# Altium integrated library ZMDI Sensor Signal Conditioner.IntLib: 63 symbols (part 1 of 3)
Pins are listed as number, name and electrical type; pins without a type are passive.

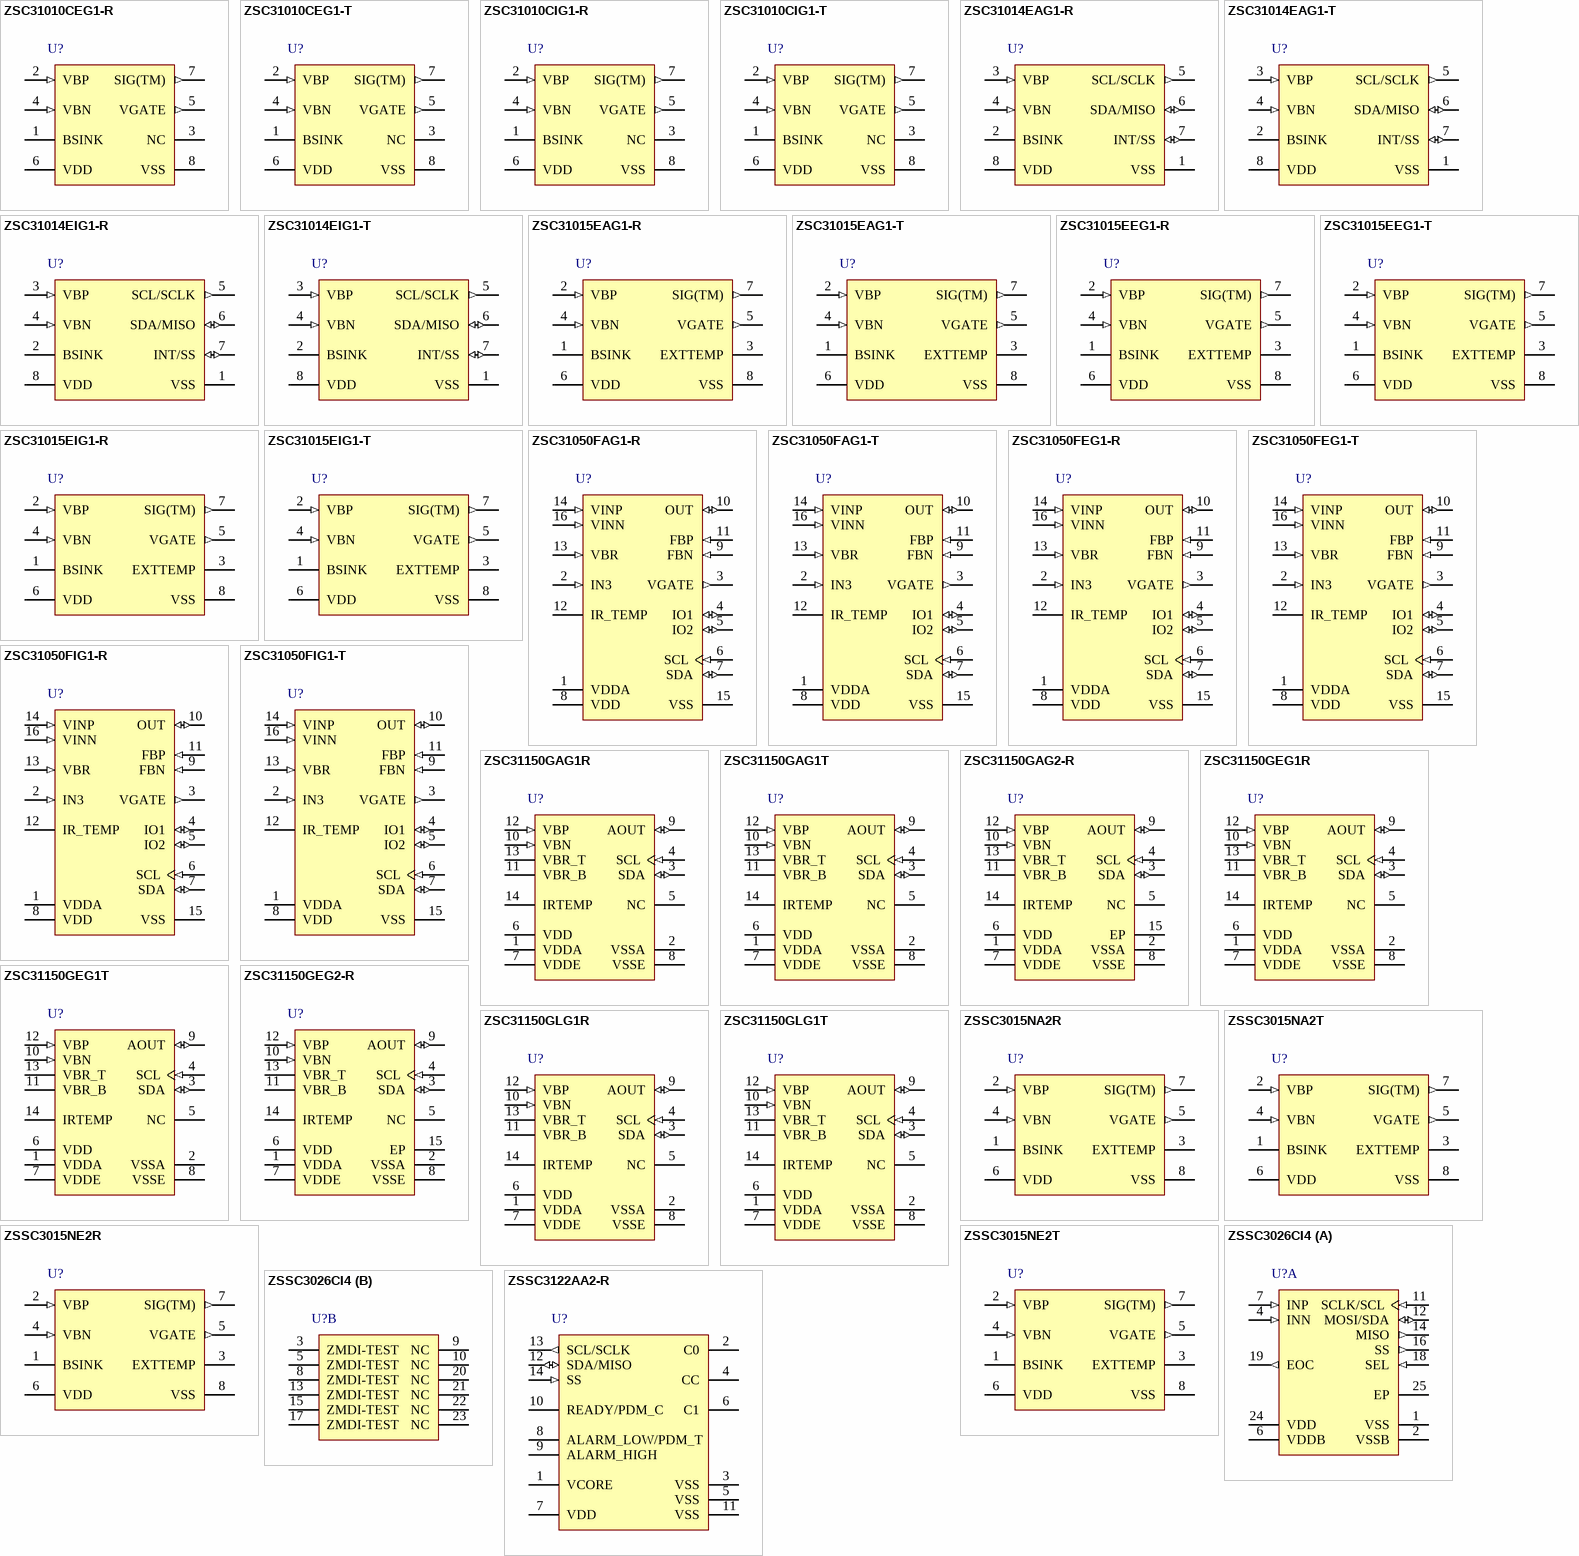
[diagram p0: symbols ZSC31010CEG1-R to ZSSC3122AA2-R]

## ZSC31010CEG1-R
designator U?
RBicLite(TM) Analog Output Sensor Signal Conditioner, 2.7 to 5.5 V Supply Voltage, -50 to 150 degC, 8-Pin SOP, Reel, RoHS; Manufacturer: ZMDI; PartNumber: ZSC31010CEG1-R; ADC Resolution: 14; Adjustable Analog Gain Values: 6 to 48; DatasheetVersion: Rev. 2.84; PackageReference: SOP8 (150mil); PackageDescription: 8-Pin Plastic Small Outline, 4.9 x 3.9 mm Body, 1.27 mm Pitch; Supplier 1: Mouser; Supplier Part Number 1: 964-ZSC31010CEG1R; Mounting Technology: Surface Mount; ComponentLink1Description: Manufacturer URL; ComponentLink1URL: http://www.zmdi.com/; ComponentLink2Description: Datasheet; ComponentLink2URL: http://zmdi.cdistore.com/datasheets/zmdi/ZSC31010_RBic_Lite_Data_Sheet_rev2_84_2013-08_15.pdf; ComponentLink3Description: Package Specification; ComponentLink3URL: http://www.zmdi.com/sites/default/files/ZLED7010_DataSheet_Rev_1.1.pdf
footprint ZMDI-SOP8 (150mil)_N (SOP, 8-Leads, Body 5x4mm, Pitch 1.27mm, IPC Medium Density)
footprint ZMDI-SOP8 (150mil)_L (SOP, 8-Leads, Body 5x4mm, Pitch 1.27mm, IPC High Density)
footprint ZMDI-SOP8 (150mil)_M (SOP, 8-Leads, Body 5x4mm, Pitch 1.27mm, IPC Low Density)
pins: 1 BSINK (power) "Optional ground connection for bridge ground. Used for power savings.", 2 VBP (in) "Positive bridge connection", 3 NC "No connection", 4 VBN (in) "Negative bridge connection", 5 VGATE (out) "Gate control for external JFET regulation/over-voltage protection", 6 VDD (power) "Supply voltage (2.7 - 5.5 V)", 7 SIG(TM) (out) "ZACwire(TM) interface (analog out, digital out, calibration interface)", 8 VSS (power) "Ground supply"

## ZSC31010CEG1-T
designator U?
RBicLite(TM) Analog Output Sensor Signal Conditioner, 2.7 to 5.5 V Supply Voltage, -50 to 150 degC, 8-Pin SOP, Tube, RoHS; Manufacturer: ZMDI; PartNumber: ZSC31010CEG1-T; ADC Resolution: 14; Adjustable Analog Gain Values: 6 to 48; DatasheetVersion: Rev. 2.84; PackageReference: SOP8 (150mil); PackageDescription: 8-Pin Plastic Small Outline, 4.9 x 3.9 mm Body, 1.27 mm Pitch; Supplier 1: Mouser; Supplier Part Number 1: 964-ZSC31010CEG1T; Mounting Technology: Surface Mount; ComponentLink1Description: Manufacturer URL; ComponentLink1URL: http://www.zmdi.com/; ComponentLink2Description: Datasheet; ComponentLink2URL: http://zmdi.cdistore.com/datasheets/zmdi/ZSC31010_RBic_Lite_Data_Sheet_rev2_84_2013-08_15.pdf; ComponentLink3Description: Package Specification; ComponentLink3URL: http://www.zmdi.com/sites/default/files/ZLED7010_DataSheet_Rev_1.1.pdf
footprint ZMDI-SOP8 (150mil)_N (SOP, 8-Leads, Body 5x4mm, Pitch 1.27mm, IPC Medium Density)
footprint ZMDI-SOP8 (150mil)_L (SOP, 8-Leads, Body 5x4mm, Pitch 1.27mm, IPC High Density)
footprint ZMDI-SOP8 (150mil)_M (SOP, 8-Leads, Body 5x4mm, Pitch 1.27mm, IPC Low Density)
pins: 1 BSINK (power) "Optional ground connection for bridge ground. Used for power savings.", 2 VBP (in) "Positive bridge connection", 3 NC "No connection", 4 VBN (in) "Negative bridge connection", 5 VGATE (out) "Gate control for external JFET regulation/over-voltage protection", 6 VDD (power) "Supply voltage (2.7 - 5.5 V)", 7 SIG(TM) (out) "ZACwire(TM) interface (analog out, digital out, calibration interface)", 8 VSS (power) "Ground supply"

## ZSC31010CIG1-R
designator U?
RBicLite(TM) Analog Output Sensor Signal Conditioner, 2.7 to 5.5 V Supply Voltage, -40 to 85 degC, 8-Pin SOP, Reel, RoHS; Manufacturer: ZMDI; PartNumber: ZSC31010CIG1-R; ADC Resolution: 14; Adjustable Analog Gain Values: 6 to 48; DatasheetVersion: Rev. 2.84; PackageReference: SOP8 (150mil); PackageDescription: 8-Pin Plastic Small Outline, 4.9 x 3.9 mm Body, 1.27 mm Pitch; Supplier 1: Mouser; Supplier Part Number 1: 964-ZSC31010CIG1R; Mounting Technology: Surface Mount; ComponentLink1Description: Manufacturer URL; ComponentLink1URL: http://www.zmdi.com/; ComponentLink2Description: Datasheet; ComponentLink2URL: http://zmdi.cdistore.com/datasheets/zmdi/ZSC31010_RBic_Lite_Data_Sheet_rev2_84_2013-08_15.pdf; ComponentLink3Description: Package Specification; ComponentLink3URL: http://www.zmdi.com/sites/default/files/ZLED7010_DataSheet_Rev_1.1.pdf
footprint ZMDI-SOP8 (150mil)_N (SOP, 8-Leads, Body 5x4mm, Pitch 1.27mm, IPC Medium Density)
footprint ZMDI-SOP8 (150mil)_L (SOP, 8-Leads, Body 5x4mm, Pitch 1.27mm, IPC High Density)
footprint ZMDI-SOP8 (150mil)_M (SOP, 8-Leads, Body 5x4mm, Pitch 1.27mm, IPC Low Density)
pins: 1 BSINK (power) "Optional ground connection for bridge ground. Used for power savings.", 2 VBP (in) "Positive bridge connection", 3 NC "No connection", 4 VBN (in) "Negative bridge connection", 5 VGATE (out) "Gate control for external JFET regulation/over-voltage protection", 6 VDD (power) "Supply voltage (2.7 - 5.5 V)", 7 SIG(TM) (out) "ZACwire(TM) interface (analog out, digital out, calibration interface)", 8 VSS (power) "Ground supply"

## ZSC31010CIG1-T
designator U?
RBicLite(TM) Analog Output Sensor Signal Conditioner, 2.7 to 5.5 V Supply Voltage, -40 to 85 degC, 8-Pin SOP, Tube, RoHS; Manufacturer: ZMDI; PartNumber: ZSC31010CIG1-T; ADC Resolution: 14; Adjustable Analog Gain Values: 6 to 48; DatasheetVersion: Rev. 2.84; PackageReference: SOP8 (150mil); PackageDescription: 8-Pin Plastic Small Outline, 4.9 x 3.9 mm Body, 1.27 mm Pitch; Supplier 1: Mouser; Supplier Part Number 1: 964-ZSC31010CIG1T; Mounting Technology: Surface Mount; ComponentLink1Description: Manufacturer URL; ComponentLink1URL: http://www.zmdi.com/; ComponentLink2Description: Datasheet; ComponentLink2URL: http://zmdi.cdistore.com/datasheets/zmdi/ZSC31010_RBic_Lite_Data_Sheet_rev2_84_2013-08_15.pdf; ComponentLink3Description: Package Specification; ComponentLink3URL: http://www.zmdi.com/sites/default/files/ZLED7010_DataSheet_Rev_1.1.pdf
footprint ZMDI-SOP8 (150mil)_N (SOP, 8-Leads, Body 5x4mm, Pitch 1.27mm, IPC Medium Density)
footprint ZMDI-SOP8 (150mil)_L (SOP, 8-Leads, Body 5x4mm, Pitch 1.27mm, IPC High Density)
footprint ZMDI-SOP8 (150mil)_M (SOP, 8-Leads, Body 5x4mm, Pitch 1.27mm, IPC Low Density)
pins: 1 BSINK (power) "Optional ground connection for bridge ground. Used for power savings.", 2 VBP (in) "Positive bridge connection", 3 NC "No connection", 4 VBN (in) "Negative bridge connection", 5 VGATE (out) "Gate control for external JFET regulation/over-voltage protection", 6 VDD (power) "Supply voltage (2.7 - 5.5 V)", 7 SIG(TM) (out) "ZACwire(TM) interface (analog out, digital out, calibration interface)", 8 VSS (power) "Ground supply"

## ZSC31014EAG1-R
designator U?
RBiciLite(TM) Digital Output Sensor Signal Conditioner, 2.7 to 5.5 V Supply Voltage, -40 to 125 degC, 8-Pin SOP, Reel, RoHS; Manufacturer: ZMDI; PartNumber: ZSC31014EAG1-R; ADC Resolution: 14; Adjustable Analog Gain Values: 1.5 to 192; DatasheetVersion: Rev. 1.62; PackageReference: SOP8 (150mil); PackageDescription: 8-Pin Plastic Small Outline, 4.9 x 3.9 mm Body, 1.27 mm Pitch; Supplier 1: Mouser; Supplier Part Number 1: 964-ZSC31014EAG1-R; Mounting Technology: Surface Mount; ComponentLink1Description: Manufacturer URL; ComponentLink1URL: http://www.zmdi.com/; ComponentLink2Description: Datasheet; ComponentLink2URL: http://www.zmdi.com/sites/default/files/ZSC31014_iLite_Data_Sheet_rev1_62_2013-03-11.pdf; ComponentLink3Description: Package Specification; ComponentLink3URL: http://www.zmdi.com/sites/default/files/ZLED7010_DataSheet_Rev_1.1.pdf
footprint ZMDI-SOP8 (150mil)_N (SOP, 8-Leads, Body 5x4mm, Pitch 1.27mm, IPC Medium Density)
footprint ZMDI-SOP8 (150mil)_L (SOP, 8-Leads, Body 5x4mm, Pitch 1.27mm, IPC High Density)
footprint ZMDI-SOP8 (150mil)_M (SOP, 8-Leads, Body 5x4mm, Pitch 1.27mm, IPC Low Density)
pins: 1 VSS (power) "Ground supply.", 2 BSINK (power) "Switched ground for bridge sink - optional feature for power savings.", 3 VBP (in) "Positive input for differential signal (bridge positive).", 4 VBN (in) "Negative input for differential signal (bridge negative).", 5 SCL/SCLK (out), 6 SDA/MISO (io), 7 INT/SS (io), 8 VDD (power) "Supply voltage (2.7-5.5V)."

## ZSC31014EAG1-T
designator U?
RBiciLite(TM) Digital Output Sensor Signal Conditioner, 2.7 to 5.5 V Supply Voltage, -40 to 125 degC, 8-Pin SOP, Tube, RoHS; Manufacturer: ZMDI; PartNumber: ZSC31014EAG1-T; ADC Resolution: 14; Adjustable Analog Gain Values: 1.5 to 192; DatasheetVersion: Rev. 1.62; PackageReference: SOP8 (150mil); PackageDescription: 8-Pin Plastic Small Outline, 4.9 x 3.9 mm Body, 1.27 mm Pitch; Supplier 1: Mouser; Supplier Part Number 1: 964-ZSC31014EAG1-T; Mounting Technology: Surface Mount; ComponentLink1Description: Manufacturer URL; ComponentLink1URL: http://www.zmdi.com/; ComponentLink2Description: Datasheet; ComponentLink2URL: http://www.zmdi.com/sites/default/files/ZSC31014_iLite_Data_Sheet_rev1_62_2013-03-11.pdf; ComponentLink3Description: Package Specification; ComponentLink3URL: http://www.zmdi.com/sites/default/files/ZLED7010_DataSheet_Rev_1.1.pdf
footprint ZMDI-SOP8 (150mil)_N (SOP, 8-Leads, Body 5x4mm, Pitch 1.27mm, IPC Medium Density)
footprint ZMDI-SOP8 (150mil)_L (SOP, 8-Leads, Body 5x4mm, Pitch 1.27mm, IPC High Density)
footprint ZMDI-SOP8 (150mil)_M (SOP, 8-Leads, Body 5x4mm, Pitch 1.27mm, IPC Low Density)
pins: 1 VSS (power) "Ground supply.", 2 BSINK (power) "Switched ground for bridge sink - optional feature for power savings.", 3 VBP (in) "Positive input for differential signal (bridge positive).", 4 VBN (in) "Negative input for differential signal (bridge negative).", 5 SCL/SCLK (out), 6 SDA/MISO (io), 7 INT/SS (io), 8 VDD (power) "Supply voltage (2.7-5.5V)."

## ZSC31014EIG1-R
designator U?
RBiciLite(TM) Digital Output Sensor Signal Conditioner, 2.7 to 5.5 V Supply Voltage, -40 to 85 degC, 8-Pin SOP, Reel, RoHS; Manufacturer: ZMDI; PartNumber: ZSC31014EIG1-R; ADC Resolution: 14; Adjustable Analog Gain Values: 1.5 to 192; DatasheetVersion: Rev. 1.62; PackageReference: SOP8 (150mil); PackageDescription: 8-Pin Plastic Small Outline, 4.9 x 3.9 mm Body, 1.27 mm Pitch; Supplier 1: Mouser; Supplier Part Number 1: 964-ZSC31014EIG1-R; Mounting Technology: Surface Mount; ComponentLink1Description: Manufacturer URL; ComponentLink1URL: http://www.zmdi.com/; ComponentLink2Description: Datasheet; ComponentLink2URL: http://www.zmdi.com/sites/default/files/ZSC31014_iLite_Data_Sheet_rev1_62_2013-03-11.pdf; ComponentLink3Description: Package Specification; ComponentLink3URL: http://www.zmdi.com/sites/default/files/ZLED7010_DataSheet_Rev_1.1.pdf
footprint ZMDI-SOP8 (150mil)_N (SOP, 8-Leads, Body 5x4mm, Pitch 1.27mm, IPC Medium Density)
footprint ZMDI-SOP8 (150mil)_L (SOP, 8-Leads, Body 5x4mm, Pitch 1.27mm, IPC High Density)
footprint ZMDI-SOP8 (150mil)_M (SOP, 8-Leads, Body 5x4mm, Pitch 1.27mm, IPC Low Density)
pins: 1 VSS (power) "Ground supply.", 2 BSINK (power) "Switched ground for bridge sink - optional feature for power savings.", 3 VBP (in) "Positive input for differential signal (bridge positive).", 4 VBN (in) "Negative input for differential signal (bridge negative).", 5 SCL/SCLK (out), 6 SDA/MISO (io), 7 INT/SS (io), 8 VDD (power) "Supply voltage (2.7-5.5V)."

## ZSC31014EIG1-T
designator U?
RBiciLite(TM) Digital Output Sensor Signal Conditioner, 2.7 to 5.5 V Supply Voltage, -40 to 85 degC, 8-Pin SOP, Tube, RoHS; Manufacturer: ZMDI; PartNumber: ZSC31014EIG1-T; ADC Resolution: 14; Adjustable Analog Gain Values: 1.5 to 192; DatasheetVersion: Rev. 1.62; PackageReference: SOP8 (150mil); PackageDescription: 8-Pin Plastic Small Outline, 4.9 x 3.9 mm Body, 1.27 mm Pitch; Supplier 1: Mouser; Supplier Part Number 1: 964-ZSC31014EIG1-T; Mounting Technology: Surface Mount; ComponentLink1Description: Manufacturer URL; ComponentLink1URL: http://www.zmdi.com/; ComponentLink2Description: Datasheet; ComponentLink2URL: http://www.zmdi.com/sites/default/files/ZSC31014_iLite_Data_Sheet_rev1_62_2013-03-11.pdf; ComponentLink3Description: Package Specification; ComponentLink3URL: http://www.zmdi.com/sites/default/files/ZLED7010_DataSheet_Rev_1.1.pdf
footprint ZMDI-SOP8 (150mil)_N (SOP, 8-Leads, Body 5x4mm, Pitch 1.27mm, IPC Medium Density)
footprint ZMDI-SOP8 (150mil)_L (SOP, 8-Leads, Body 5x4mm, Pitch 1.27mm, IPC High Density)
footprint ZMDI-SOP8 (150mil)_M (SOP, 8-Leads, Body 5x4mm, Pitch 1.27mm, IPC Low Density)
pins: 1 VSS (power) "Ground supply.", 2 BSINK (power) "Switched ground for bridge sink - optional feature for power savings.", 3 VBP (in) "Positive input for differential signal (bridge positive).", 4 VBN (in) "Negative input for differential signal (bridge negative).", 5 SCL/SCLK (out), 6 SDA/MISO (io), 7 INT/SS (io), 8 VDD (power) "Supply voltage (2.7-5.5V)."

## ZSC31015EAG1-R
designator U?
RBicdLite(TM) Analog Output Sensor Signal Conditioner with Diagnostic Features, 2.7 to 5.5 V Supply Voltage, -40 to 125 degC, 8-Pin SOP, Reel, RoHS; Manufacturer: ZMDI; PartNumber: ZSC31015EAG1-R; ADC Resolution: 14; Adjustable Analog Gain Values: 6 to 96; DatasheetVersion: Rev. 2.00; PackageReference: SOP8 (150mil); PackageDescription: 8-Pin Plastic Small Outline, 4.9 x 3.9 mm Body, 1.27 mm Pitch; Supplier 1: Mouser; Supplier Part Number 1: 964-ZSC31015EAG1-R; Mounting Technology: Surface Mount; ComponentLink1Description: Manufacturer URL; ComponentLink1URL: http://www.zmdi.com/; ComponentLink2Description: Datasheet; ComponentLink2URL: http://zmdi.cdistore.com/datasheets/zmdi/ZSC31015_RBic_dLite_Data_Sheet_Rev_2_00.pdf; ComponentLink3Description: Package Specification; ComponentLink3URL: http://www.zmdi.com/sites/default/files/ZLED7010_DataSheet_Rev_1.1.pdf
footprint ZMDI-SOP8 (150mil)_N (SOP, 8-Leads, Body 5x4mm, Pitch 1.27mm, IPC Medium Density)
footprint ZMDI-SOP8 (150mil)_L (SOP, 8-Leads, Body 5x4mm, Pitch 1.27mm, IPC High Density)
footprint ZMDI-SOP8 (150mil)_M (SOP, 8-Leads, Body 5x4mm, Pitch 1.27mm, IPC Low Density)
pins: 1 BSINK (power) "Optional ground connection for bridge ground; used for power savings", 2 VBP (in) "Positive bridge connection", 3 EXTTEMP "External diode connection", 4 VBN (in) "Negative bridge connection", 5 VGATE (out) "Gate control for external JFET regulation/over-voltage protection", 6 VDD (power) "Supply voltage (2.7 to 5.5 V)", 7 SIG(TM) (out) "ZACwire(TM) interface (analog out, digital out, calibration interface)", 8 VSS (power) "Ground supply"

## ZSC31015EAG1-T
designator U?
RBicdLite(TM) Analog Output Sensor Signal Conditioner with Diagnostic Features, 2.7 to 5.5 V Supply Voltage, -40 to 125 degC, 8-Pin SOP, Tube, RoHS; Manufacturer: ZMDI; PartNumber: ZSC31015EAG1-T; ADC Resolution: 14; Adjustable Analog Gain Values: 6 to 96; DatasheetVersion: Rev. 2.00; PackageReference: SOP8 (150mil); PackageDescription: 8-Pin Plastic Small Outline, 4.9 x 3.9 mm Body, 1.27 mm Pitch; Supplier 1: Mouser; Supplier Part Number 1: 964-ZSC31015EAG1-T; Mounting Technology: Surface Mount; ComponentLink1Description: Manufacturer URL; ComponentLink1URL: http://www.zmdi.com/; ComponentLink2Description: Datasheet; ComponentLink2URL: http://zmdi.cdistore.com/datasheets/zmdi/ZSC31015_RBic_dLite_Data_Sheet_Rev_2_00.pdf; ComponentLink3Description: Package Specification; ComponentLink3URL: http://www.zmdi.com/sites/default/files/ZLED7010_DataSheet_Rev_1.1.pdf
footprint ZMDI-SOP8 (150mil)_N (SOP, 8-Leads, Body 5x4mm, Pitch 1.27mm, IPC Medium Density)
footprint ZMDI-SOP8 (150mil)_L (SOP, 8-Leads, Body 5x4mm, Pitch 1.27mm, IPC High Density)
footprint ZMDI-SOP8 (150mil)_M (SOP, 8-Leads, Body 5x4mm, Pitch 1.27mm, IPC Low Density)
pins: 1 BSINK (power) "Optional ground connection for bridge ground; used for power savings", 2 VBP (in) "Positive bridge connection", 3 EXTTEMP "External diode connection", 4 VBN (in) "Negative bridge connection", 5 VGATE (out) "Gate control for external JFET regulation/over-voltage protection", 6 VDD (power) "Supply voltage (2.7 to 5.5 V)", 7 SIG(TM) (out) "ZACwire(TM) interface (analog out, digital out, calibration interface)", 8 VSS (power) "Ground supply"

## ZSC31015EEG1-R
designator U?
RBicdLite(TM) Analog Output Sensor Signal Conditioner with Diagnostic Features, 2.7 to 5.5 V Supply Voltage, -50 to 150 degC, 8-Pin SOP, Reel, RoHS; Manufacturer: ZMDI; PartNumber: ZSC31015EEG1-R; ADC Resolution: 14; Adjustable Analog Gain Values: 6 to 96; DatasheetVersion: Rev. 2.00; PackageReference: SOP8 (150mil); PackageDescription: 8-Pin Plastic Small Outline, 4.9 x 3.9 mm Body, 1.27 mm Pitch; Supplier 1: Mouser; Supplier Part Number 1: 964-ZSC31015EEG1-R; Mounting Technology: Surface Mount; ComponentLink1Description: Manufacturer URL; ComponentLink1URL: http://www.zmdi.com/; ComponentLink2Description: Datasheet; ComponentLink2URL: http://zmdi.cdistore.com/datasheets/zmdi/ZSC31015_RBic_dLite_Data_Sheet_Rev_2_00.pdf; ComponentLink3Description: Package Specification; ComponentLink3URL: http://www.zmdi.com/sites/default/files/ZLED7010_DataSheet_Rev_1.1.pdf
footprint ZMDI-SOP8 (150mil)_N (SOP, 8-Leads, Body 5x4mm, Pitch 1.27mm, IPC Medium Density)
footprint ZMDI-SOP8 (150mil)_L (SOP, 8-Leads, Body 5x4mm, Pitch 1.27mm, IPC High Density)
footprint ZMDI-SOP8 (150mil)_M (SOP, 8-Leads, Body 5x4mm, Pitch 1.27mm, IPC Low Density)
pins: 1 BSINK (power) "Optional ground connection for bridge ground; used for power savings", 2 VBP (in) "Positive bridge connection", 3 EXTTEMP "External diode connection", 4 VBN (in) "Negative bridge connection", 5 VGATE (out) "Gate control for external JFET regulation/over-voltage protection", 6 VDD (power) "Supply voltage (2.7 to 5.5 V)", 7 SIG(TM) (out) "ZACwire(TM) interface (analog out, digital out, calibration interface)", 8 VSS (power) "Ground supply"

## ZSC31015EEG1-T
designator U?
RBicdLite(TM) Analog Output Sensor Signal Conditioner with Diagnostic Features, 2.7 to 5.5 V Supply Voltage, -50 to 150 degC, 8-Pin SOP, Tube, RoHS; Manufacturer: ZMDI; PartNumber: ZSC31015EEG1-T; ADC Resolution: 14; Adjustable Analog Gain Values: 6 to 96; DatasheetVersion: Rev. 2.00; PackageReference: SOP8 (150mil); PackageDescription: 8-Pin Plastic Small Outline, 4.9 x 3.9 mm Body, 1.27 mm Pitch; Supplier 1: Mouser; Supplier Part Number 1: 964-ZSC31015EEG1-T; Mounting Technology: Surface Mount; ComponentLink1Description: Manufacturer URL; ComponentLink1URL: http://www.zmdi.com/; ComponentLink2Description: Datasheet; ComponentLink2URL: http://zmdi.cdistore.com/datasheets/zmdi/ZSC31015_RBic_dLite_Data_Sheet_Rev_2_00.pdf; ComponentLink3Description: Package Specification; ComponentLink3URL: http://www.zmdi.com/sites/default/files/ZLED7010_DataSheet_Rev_1.1.pdf
footprint ZMDI-SOP8 (150mil)_N (SOP, 8-Leads, Body 5x4mm, Pitch 1.27mm, IPC Medium Density)
footprint ZMDI-SOP8 (150mil)_L (SOP, 8-Leads, Body 5x4mm, Pitch 1.27mm, IPC High Density)
footprint ZMDI-SOP8 (150mil)_M (SOP, 8-Leads, Body 5x4mm, Pitch 1.27mm, IPC Low Density)
pins: 1 BSINK (power) "Optional ground connection for bridge ground; used for power savings", 2 VBP (in) "Positive bridge connection", 3 EXTTEMP "External diode connection", 4 VBN (in) "Negative bridge connection", 5 VGATE (out) "Gate control for external JFET regulation/over-voltage protection", 6 VDD (power) "Supply voltage (2.7 to 5.5 V)", 7 SIG(TM) (out) "ZACwire(TM) interface (analog out, digital out, calibration interface)", 8 VSS (power) "Ground supply"

## ZSC31015EIG1-R
designator U?
RBicdLite(TM) Analog Output Sensor Signal Conditioner with Diagnostic Features, 2.7 to 5.5 V Supply Voltage, -25 to 85 degC, 8-Pin SOP, Reel, RoHS; Manufacturer: ZMDI; PartNumber: ZSC31015EIG1-R; ADC Resolution: 14; Adjustable Analog Gain Values: 6 to 96; DatasheetVersion: Rev. 2.00; PackageReference: SOP8 (150mil); PackageDescription: 8-Pin Plastic Small Outline, 4.9 x 3.9 mm Body, 1.27 mm Pitch; Supplier 1: Mouser; Supplier Part Number 1: 964-ZSC31015EIG1-R; Mounting Technology: Surface Mount; ComponentLink1Description: Manufacturer URL; ComponentLink1URL: http://www.zmdi.com/; ComponentLink2Description: Datasheet; ComponentLink2URL: http://zmdi.cdistore.com/datasheets/zmdi/ZSC31015_RBic_dLite_Data_Sheet_Rev_2_00.pdf; ComponentLink3Description: Package Specification; ComponentLink3URL: http://www.zmdi.com/sites/default/files/ZLED7010_DataSheet_Rev_1.1.pdf
footprint ZMDI-SOP8 (150mil)_N (SOP, 8-Leads, Body 5x4mm, Pitch 1.27mm, IPC Medium Density)
footprint ZMDI-SOP8 (150mil)_L (SOP, 8-Leads, Body 5x4mm, Pitch 1.27mm, IPC High Density)
footprint ZMDI-SOP8 (150mil)_M (SOP, 8-Leads, Body 5x4mm, Pitch 1.27mm, IPC Low Density)
pins: 1 BSINK (power) "Optional ground connection for bridge ground; used for power savings", 2 VBP (in) "Positive bridge connection", 3 EXTTEMP "External diode connection", 4 VBN (in) "Negative bridge connection", 5 VGATE (out) "Gate control for external JFET regulation/over-voltage protection", 6 VDD (power) "Supply voltage (2.7 to 5.5 V)", 7 SIG(TM) (out) "ZACwire(TM) interface (analog out, digital out, calibration interface)", 8 VSS (power) "Ground supply"

## ZSC31015EIG1-T
designator U?
RBicdLite(TM) Analog Output Sensor Signal Conditioner with Diagnostic Features, 2.7 to 5.5 V Supply Voltage, -25 to 85 degC, 8-Pin SOP, Tube, RoHS; Manufacturer: ZMDI; PartNumber: ZSC31015EIG1-T; ADC Resolution: 14; Adjustable Analog Gain Values: 6 to 96; DatasheetVersion: Rev. 2.00; PackageReference: SOP8 (150mil); PackageDescription: 8-Pin Plastic Small Outline, 4.9 x 3.9 mm Body, 1.27 mm Pitch; Supplier 1: Mouser; Supplier Part Number 1: 964-ZSC31015EIG1-T; Mounting Technology: Surface Mount; ComponentLink1Description: Manufacturer URL; ComponentLink1URL: http://www.zmdi.com/; ComponentLink2Description: Datasheet; ComponentLink2URL: http://zmdi.cdistore.com/datasheets/zmdi/ZSC31015_RBic_dLite_Data_Sheet_Rev_2_00.pdf; ComponentLink3Description: Package Specification; ComponentLink3URL: http://www.zmdi.com/sites/default/files/ZLED7010_DataSheet_Rev_1.1.pdf
footprint ZMDI-SOP8 (150mil)_N (SOP, 8-Leads, Body 5x4mm, Pitch 1.27mm, IPC Medium Density)
footprint ZMDI-SOP8 (150mil)_L (SOP, 8-Leads, Body 5x4mm, Pitch 1.27mm, IPC High Density)
footprint ZMDI-SOP8 (150mil)_M (SOP, 8-Leads, Body 5x4mm, Pitch 1.27mm, IPC Low Density)
pins: 1 BSINK (power) "Optional ground connection for bridge ground; used for power savings", 2 VBP (in) "Positive bridge connection", 3 EXTTEMP "External diode connection", 4 VBN (in) "Negative bridge connection", 5 VGATE (out) "Gate control for external JFET regulation/over-voltage protection", 6 VDD (power) "Supply voltage (2.7 to 5.5 V)", 7 SIG(TM) (out) "ZACwire(TM) interface (analog out, digital out, calibration interface)", 8 VSS (power) "Ground supply"

## ZSC31050FAG1-R
designator U?
Advanced Differential Sensor Signal Conditioner, 2.7 to 5.5 V Supply Voltage, -40 to 125 degC, 16-Pin SSOP, Reel, RoHS; Manufacturer: ZMDI; PartNumber: ZSC31050FAG1-R; ADC Resolution: 15; Adjustable Analog Gain Values: 2.8 to 420; DatasheetVersion: Rev. 1.12; PackageReference: SSOP-16; PackageDescription: 16-Pin Shrink Small Outline Package, 6.2 x 5.29 mm Body, 0.65 mm Pitch; Supplier 1: Mouser; Supplier Part Number 1: 964-ZSC31050FAG1-R; Mounting Technology: Surface Mount; ComponentLink1Description: Manufacturer URL; ComponentLink1URL: http://www.zmdi.com/; ComponentLink2Description: Datasheet; ComponentLink2URL: http://zmdi.cdistore.com/datasheets/zmdi/ZSC31050_Data_Sheet_Rev_1_12_2013-07-07_0.pdf; ComponentLink3Description: Package Specification; ComponentLink3URL: http://zmdi.cdistore.com/datasheets/zmdi/ZSC31050_Data_Sheet_Rev_1_12_2013-07-07_0.pdf
footprint ZMDI-SSOP-16_N (SOP, 16-Leads, Body 6.3x5.4mm, Pitch 0.65mm, IPC Medium Density)
footprint ZMDI-SSOP-16_L (SOP, 16-Leads, Body 6.3x5.4mm, Pitch 0.65mm, IPC High Density)
footprint ZMDI-SSOP-16_M (SOP, 16-Leads, Body 6.3x5.4mm, Pitch 0.65mm, IPC Low Density)
pins: 1 VDDA (power) "Positive analog supply voltage", 2 IN3 (in) "Resistive temperature sensor IN and external clock IN", 3 VGATE (out) "Gate voltage for external regulator FET", 4 IO1 (io) "SPI data out or ALARM1 or PWM1 Output", 5 IO2 (io) "SPI slave select or ALARM2", 6 SCL (in) "I2C(TM) clock or SPI clock", 7 SDA (io) "Data I/O for I2C(TM) or data IN for SPI", 8 VDD (power) "Positive digital supply voltage", 9 FBN (in) "Negative feedback connection output stage", 10 OUT (io) "Analog output or PWM2 output or one-wire interface I/O", 11 FBP (in) "Positive feedback connection output stage", 12 IR_TEMP "Current source resistor I/O and temperature diode in", 13 VBR (in) "Bridge top sensing in bridge current out", 14 VINP (in) "Positive input from sensor bridge", 15 VSS (power) "Negative supply voltage", 16 VINN (in) "Negative input from sensor bridge"

## ZSC31050FAG1-T
designator U?
Advanced Differential Sensor Signal Conditioner, 2.7 to 5.5 V Supply Voltage, -40 to 125 degC, 16-Pin SSOP, Tube, RoHS; Manufacturer: ZMDI; PartNumber: ZSC31050FAG1-T; ADC Resolution: 15; Adjustable Analog Gain Values: 2.8 to 420; DatasheetVersion: Rev. 1.12; PackageReference: SSOP-16; PackageDescription: 16-Pin Shrink Small Outline Package, 6.2 x 5.29 mm Body, 0.65 mm Pitch; Supplier 1: Mouser; Supplier Part Number 1: 964-ZSC31050FAG1-T; Mounting Technology: Surface Mount; ComponentLink1Description: Manufacturer URL; ComponentLink1URL: http://www.zmdi.com/; ComponentLink2Description: Datasheet; ComponentLink2URL: http://zmdi.cdistore.com/datasheets/zmdi/ZSC31050_Data_Sheet_Rev_1_12_2013-07-07_0.pdf; ComponentLink3Description: Package Specification; ComponentLink3URL: http://zmdi.cdistore.com/datasheets/zmdi/ZSC31050_Data_Sheet_Rev_1_12_2013-07-07_0.pdf
footprint ZMDI-SSOP-16_N (SOP, 16-Leads, Body 6.3x5.4mm, Pitch 0.65mm, IPC Medium Density)
footprint ZMDI-SSOP-16_L (SOP, 16-Leads, Body 6.3x5.4mm, Pitch 0.65mm, IPC High Density)
footprint ZMDI-SSOP-16_M (SOP, 16-Leads, Body 6.3x5.4mm, Pitch 0.65mm, IPC Low Density)
pins: 1 VDDA (power) "Positive analog supply voltage", 2 IN3 (in) "Resistive temperature sensor IN and external clock IN", 3 VGATE (out) "Gate voltage for external regulator FET", 4 IO1 (io) "SPI data out or ALARM1 or PWM1 Output", 5 IO2 (io) "SPI slave select or ALARM2", 6 SCL (in) "I2C(TM) clock or SPI clock", 7 SDA (io) "Data I/O for I2C(TM) or data IN for SPI", 8 VDD (power) "Positive digital supply voltage", 9 FBN (in) "Negative feedback connection output stage", 10 OUT (io) "Analog output or PWM2 output or one-wire interface I/O", 11 FBP (in) "Positive feedback connection output stage", 12 IR_TEMP "Current source resistor I/O and temperature diode in", 13 VBR (in) "Bridge top sensing in bridge current out", 14 VINP (in) "Positive input from sensor bridge", 15 VSS (power) "Negative supply voltage", 16 VINN (in) "Negative input from sensor bridge"

## ZSC31050FEG1-R
designator U?
Advanced Differential Sensor Signal Conditioner, 2.7 to 5.5 V Supply Voltage, -40 to 150 degC, 16-Pin SSOP, Reel, RoHS; Manufacturer: ZMDI; PartNumber: ZSC31050FEG1-R; ADC Resolution: 15; Adjustable Analog Gain Values: 2.8 to 420; DatasheetVersion: Rev. 1.12; PackageReference: SSOP-16; PackageDescription: 16-Pin Shrink Small Outline Package, 6.2 x 5.29 mm Body, 0.65 mm Pitch; Supplier 1: Mouser; Supplier Part Number 1: 964-ZSC31050FEG1-R; Mounting Technology: Surface Mount; ComponentLink1Description: Manufacturer URL; ComponentLink1URL: http://www.zmdi.com/; ComponentLink2Description: Datasheet; ComponentLink2URL: http://zmdi.cdistore.com/datasheets/zmdi/ZSC31050_Data_Sheet_Rev_1_12_2013-07-07_0.pdf; ComponentLink3Description: Package Specification; ComponentLink3URL: http://zmdi.cdistore.com/datasheets/zmdi/ZSC31050_Data_Sheet_Rev_1_12_2013-07-07_0.pdf
footprint ZMDI-SSOP-16_N (SOP, 16-Leads, Body 6.3x5.4mm, Pitch 0.65mm, IPC Medium Density)
footprint ZMDI-SSOP-16_L (SOP, 16-Leads, Body 6.3x5.4mm, Pitch 0.65mm, IPC High Density)
footprint ZMDI-SSOP-16_M (SOP, 16-Leads, Body 6.3x5.4mm, Pitch 0.65mm, IPC Low Density)
pins: 1 VDDA (power) "Positive analog supply voltage", 2 IN3 (in) "Resistive temperature sensor IN and external clock IN", 3 VGATE (out) "Gate voltage for external regulator FET", 4 IO1 (io) "SPI data out or ALARM1 or PWM1 Output", 5 IO2 (io) "SPI slave select or ALARM2", 6 SCL (in) "I2C(TM) clock or SPI clock", 7 SDA (io) "Data I/O for I2C(TM) or data IN for SPI", 8 VDD (power) "Positive digital supply voltage", 9 FBN (in) "Negative feedback connection output stage", 10 OUT (io) "Analog output or PWM2 output or one-wire interface I/O", 11 FBP (in) "Positive feedback connection output stage", 12 IR_TEMP "Current source resistor I/O and temperature diode in", 13 VBR (in) "Bridge top sensing in bridge current out", 14 VINP (in) "Positive input from sensor bridge", 15 VSS (power) "Negative supply voltage", 16 VINN (in) "Negative input from sensor bridge"

## ZSC31050FEG1-T
designator U?
Advanced Differential Sensor Signal Conditioner, 2.7 to 5.5 V Supply Voltage, -40 to 150 degC, 16-Pin SSOP, Tube, RoHS; Manufacturer: ZMDI; PartNumber: ZSC31050FEG1-T; ADC Resolution: 15; Adjustable Analog Gain Values: 2.8 to 420; DatasheetVersion: Rev. 1.12; PackageReference: SSOP-16; PackageDescription: 16-Pin Shrink Small Outline Package, 6.2 x 5.29 mm Body, 0.65 mm Pitch; Supplier 1: Mouser; Supplier Part Number 1: 964-ZSC31050FEG1-T; Mounting Technology: Surface Mount; ComponentLink1Description: Manufacturer URL; ComponentLink1URL: http://www.zmdi.com/; ComponentLink2Description: Datasheet; ComponentLink2URL: http://zmdi.cdistore.com/datasheets/zmdi/ZSC31050_Data_Sheet_Rev_1_12_2013-07-07_0.pdf; ComponentLink3Description: Package Specification; ComponentLink3URL: http://zmdi.cdistore.com/datasheets/zmdi/ZSC31050_Data_Sheet_Rev_1_12_2013-07-07_0.pdf
footprint ZMDI-SSOP-16_N (SOP, 16-Leads, Body 6.3x5.4mm, Pitch 0.65mm, IPC Medium Density)
footprint ZMDI-SSOP-16_L (SOP, 16-Leads, Body 6.3x5.4mm, Pitch 0.65mm, IPC High Density)
footprint ZMDI-SSOP-16_M (SOP, 16-Leads, Body 6.3x5.4mm, Pitch 0.65mm, IPC Low Density)
pins: 1 VDDA (power) "Positive analog supply voltage", 2 IN3 (in) "Resistive temperature sensor IN and external clock IN", 3 VGATE (out) "Gate voltage for external regulator FET", 4 IO1 (io) "SPI data out or ALARM1 or PWM1 Output", 5 IO2 (io) "SPI slave select or ALARM2", 6 SCL (in) "I2C(TM) clock or SPI clock", 7 SDA (io) "Data I/O for I2C(TM) or data IN for SPI", 8 VDD (power) "Positive digital supply voltage", 9 FBN (in) "Negative feedback connection output stage", 10 OUT (io) "Analog output or PWM2 output or one-wire interface I/O", 11 FBP (in) "Positive feedback connection output stage", 12 IR_TEMP "Current source resistor I/O and temperature diode in", 13 VBR (in) "Bridge top sensing in bridge current out", 14 VINP (in) "Positive input from sensor bridge", 15 VSS (power) "Negative supply voltage", 16 VINN (in) "Negative input from sensor bridge"

## ZSC31050FIG1-R
designator U?
Advanced Differential Sensor Signal Conditioner, 2.7 to 5.5 V Supply Voltage, -25 to 85 degC, 16-Pin SSOP, Reel, RoHS; Manufacturer: ZMDI; PartNumber: ZSC31050FIG1-R; ADC Resolution: 15; Adjustable Analog Gain Values: 2.8 to 420; DatasheetVersion: Rev. 1.12; PackageReference: SSOP-16; PackageDescription: 16-Pin Shrink Small Outline Package, 6.2 x 5.29 mm Body, 0.65 mm Pitch; Supplier 1: Mouser; Supplier Part Number 1: 964-ZSC31050FIG1-R; Mounting Technology: Surface Mount; ComponentLink1Description: Manufacturer URL; ComponentLink1URL: http://www.zmdi.com/; ComponentLink2Description: Datasheet; ComponentLink2URL: http://zmdi.cdistore.com/datasheets/zmdi/ZSC31050_Data_Sheet_Rev_1_12_2013-07-07_0.pdf; ComponentLink3Description: Package Specification; ComponentLink3URL: http://zmdi.cdistore.com/datasheets/zmdi/ZSC31050_Data_Sheet_Rev_1_12_2013-07-07_0.pdf
footprint ZMDI-SSOP-16_N (SOP, 16-Leads, Body 6.3x5.4mm, Pitch 0.65mm, IPC Medium Density)
footprint ZMDI-SSOP-16_L (SOP, 16-Leads, Body 6.3x5.4mm, Pitch 0.65mm, IPC High Density)
footprint ZMDI-SSOP-16_M (SOP, 16-Leads, Body 6.3x5.4mm, Pitch 0.65mm, IPC Low Density)
pins: 1 VDDA (power) "Positive analog supply voltage", 2 IN3 (in) "Resistive temperature sensor IN and external clock IN", 3 VGATE (out) "Gate voltage for external regulator FET", 4 IO1 (io) "SPI data out or ALARM1 or PWM1 Output", 5 IO2 (io) "SPI slave select or ALARM2", 6 SCL (in) "I2C(TM) clock or SPI clock", 7 SDA (io) "Data I/O for I2C(TM) or data IN for SPI", 8 VDD (power) "Positive digital supply voltage", 9 FBN (in) "Negative feedback connection output stage", 10 OUT (io) "Analog output or PWM2 output or one-wire interface I/O", 11 FBP (in) "Positive feedback connection output stage", 12 IR_TEMP "Current source resistor I/O and temperature diode in", 13 VBR (in) "Bridge top sensing in bridge current out", 14 VINP (in) "Positive input from sensor bridge", 15 VSS (power) "Negative supply voltage", 16 VINN (in) "Negative input from sensor bridge"

## ZSC31050FIG1-T
designator U?
Advanced Differential Sensor Signal Conditioner, 2.7 to 5.5 V Supply Voltage, -25 to 85 degC, 16-Pin SSOP, Tube, RoHS; Manufacturer: ZMDI; PartNumber: ZSC31050FIG1-T; ADC Resolution: 15; Adjustable Analog Gain Values: 2.8 to 420; DatasheetVersion: Rev. 1.12; PackageReference: SSOP-16; PackageDescription: 16-Pin Shrink Small Outline Package, 6.2 x 5.29 mm Body, 0.65 mm Pitch; Supplier 1: Mouser; Supplier Part Number 1: 964-ZSC31050FIG1-T; Mounting Technology: Surface Mount; ComponentLink1Description: Manufacturer URL; ComponentLink1URL: http://www.zmdi.com/; ComponentLink2Description: Datasheet; ComponentLink2URL: http://zmdi.cdistore.com/datasheets/zmdi/ZSC31050_Data_Sheet_Rev_1_12_2013-07-07_0.pdf; ComponentLink3Description: Package Specification; ComponentLink3URL: http://zmdi.cdistore.com/datasheets/zmdi/ZSC31050_Data_Sheet_Rev_1_12_2013-07-07_0.pdf
footprint ZMDI-SSOP-16_N (SOP, 16-Leads, Body 6.3x5.4mm, Pitch 0.65mm, IPC Medium Density)
footprint ZMDI-SSOP-16_L (SOP, 16-Leads, Body 6.3x5.4mm, Pitch 0.65mm, IPC High Density)
footprint ZMDI-SSOP-16_M (SOP, 16-Leads, Body 6.3x5.4mm, Pitch 0.65mm, IPC Low Density)
pins: 1 VDDA (power) "Positive analog supply voltage", 2 IN3 (in) "Resistive temperature sensor IN and external clock IN", 3 VGATE (out) "Gate voltage for external regulator FET", 4 IO1 (io) "SPI data out or ALARM1 or PWM1 Output", 5 IO2 (io) "SPI slave select or ALARM2", 6 SCL (in) "I2C(TM) clock or SPI clock", 7 SDA (io) "Data I/O for I2C(TM) or data IN for SPI", 8 VDD (power) "Positive digital supply voltage", 9 FBN (in) "Negative feedback connection output stage", 10 OUT (io) "Analog output or PWM2 output or one-wire interface I/O", 11 FBP (in) "Positive feedback connection output stage", 12 IR_TEMP "Current source resistor I/O and temperature diode in", 13 VBR (in) "Bridge top sensing in bridge current out", 14 VINP (in) "Positive input from sensor bridge", 15 VSS (power) "Negative supply voltage", 16 VINN (in) "Negative input from sensor bridge"

## ZSC31150GAG1R
designator U?
Fast Automotive Sensor Signal Conditioner, 4.5 to 5.5 V Supply Voltage, -40 to 125 degC, 14-Pin SSOP, Reel, RoHS; Manufacturer: ZMDI; PartNumber: ZSC31150GAG1R; ADC Resolution: 16; Adjustable Analog Gain Values: 2.8 to 420; DatasheetVersion: Rev. 2.00; PackageReference: SSOP14; PackageDescription: 14-Pin Shrink Small Outline Package, 6.2 x 5.29 mm Body, 0.65 mm Pitch; Supplier 1: Mouser; Supplier Part Number 1: 964-ZSC31150GAG1-R; Mounting Technology: Surface Mount; ComponentLink1Description: Manufacturer URL; ComponentLink1URL: http://www.zmdi.com/; ComponentLink2Description: Datasheet; ComponentLink2URL: http://zmdi.cdistore.com/datasheets/zmdi/ZSC31150_Data_Sheet_Rev_2_00_2012-10-15.pdf; ComponentLink3Description: Package Specification; ComponentLink3URL: http://zmdi.cdistore.com/datasheets/zmdi/ZSC31150_Data_Sheet_Rev_2_00_2012-10-15.pdf
footprint ZMDI-SSOP14_N (SOP, 14-Leads, Body 6.3x5.4mm, Pitch 0.65mm, IPC Medium Density)
footprint ZMDI-SSOP14_L (SOP, 14-Leads, Body 6.3x5.4mm, Pitch 0.65mm, IPC High Density)
footprint ZMDI-SSOP14_M (SOP, 14-Leads, Body 6.3x5.4mm, Pitch 0.65mm, IPC Low Density)
pins: 1 VDDA (power) "Positive analog supply voltage", 2 VSSA (power) "Negative analog supply voltage", 3 SDA (io) "I2C(TM) data IO", 4 SCL (in) "I2C(TM) clock", 5 NC "No connection", 6 VDD (power) "Positive digital supply voltage", 7 VDDE (power) "Positive external supply voltage", 8 VSSE (power) "Negative external supply voltage", 9 AOUT (io) "Analog output & one wire IF IO", 10 VBN (in) "Negative input sensor bridge", 11 VBR_B (power) "Bridge bottom potential", 12 VBP (in) "Positive input sensor bridge", 13 VBR_T (power) "Bridge top potential", 14 IRTEMP "Temp sensor & current source resistor"

## ZSC31150GAG1T
designator U?
Fast Automotive Sensor Signal Conditioner, 4.5 to 5.5 V Supply Voltage, -40 to 125 degC, 14-Pin SSOP, Tube, RoHS; Manufacturer: ZMDI; PartNumber: ZSC31150GAG1T; ADC Resolution: 16; Adjustable Analog Gain Values: 2.8 to 420; DatasheetVersion: Rev. 2.00; PackageReference: SSOP14; PackageDescription: 14-Pin Shrink Small Outline Package, 6.2 x 5.29 mm Body, 0.65 mm Pitch; Supplier 1: Mouser; Supplier Part Number 1: 964-ZSC31150GAG1-T; Mounting Technology: Surface Mount; ComponentLink1Description: Manufacturer URL; ComponentLink1URL: http://www.zmdi.com/; ComponentLink2Description: Datasheet; ComponentLink2URL: http://zmdi.cdistore.com/datasheets/zmdi/ZSC31150_Data_Sheet_Rev_2_00_2012-10-15.pdf; ComponentLink3Description: Package Specification; ComponentLink3URL: http://zmdi.cdistore.com/datasheets/zmdi/ZSC31150_Data_Sheet_Rev_2_00_2012-10-15.pdf
footprint ZMDI-SSOP14_N (SOP, 14-Leads, Body 6.3x5.4mm, Pitch 0.65mm, IPC Medium Density)
footprint ZMDI-SSOP14_L (SOP, 14-Leads, Body 6.3x5.4mm, Pitch 0.65mm, IPC High Density)
footprint ZMDI-SSOP14_M (SOP, 14-Leads, Body 6.3x5.4mm, Pitch 0.65mm, IPC Low Density)
pins: 1 VDDA (power) "Positive analog supply voltage", 2 VSSA (power) "Negative analog supply voltage", 3 SDA (io) "I2C(TM) data IO", 4 SCL (in) "I2C(TM) clock", 5 NC "No connection", 6 VDD (power) "Positive digital supply voltage", 7 VDDE (power) "Positive external supply voltage", 8 VSSE (power) "Negative external supply voltage", 9 AOUT (io) "Analog output & one wire IF IO", 10 VBN (in) "Negative input sensor bridge", 11 VBR_B (power) "Bridge bottom potential", 12 VBP (in) "Positive input sensor bridge", 13 VBR_T (power) "Bridge top potential", 14 IRTEMP "Temp sensor & current source resistor"

## ZSC31150GAG2-R
designator U?
Fast Automotive Sensor Signal Conditioner, 4.5 to 5.5 V Supply Voltage, -40 to 150 degC, 14-Pin DFN, Tape & Reel, RoHS; Manufacturer: ZMDI; PartNumber: ZSC31150GAG2-R; ADC Resolution: 16; Adjustable Analog Gain Values: 2.8 to 420; DatasheetVersion: Rev. 2.10; PackageReference: DFN14; PackageDescription: 14-Pin Dual Flatpack No Leads, 5 x 4 mm Body, 0.5 mm Pitch; Mounting Technology: Surface Mount; ComponentLink1Description: Manufacturer URL; ComponentLink1URL: http://www.zmdi.com/; ComponentLink2Description: Datasheet; ComponentLink2URL: http://www.zmdi.com/sites/default/files/ZSC31150_Data_Sheet_Rev_2_10_2014-03-31.pdf; ComponentLink3Description: Package Specification; ComponentLink3URL: http://www.zmdi.com/sites/default/files/ZSC31150_Data_Sheet_Rev_2_10_2014-03-31.pdf
footprint ZMDI-DFN14_N (DFN, 14-Leads, Body 5.1x4.1mm, Pitch 0.5mm, Thermal Pad 4.4x2.5mm, IPC Medium Density)
footprint ZMDI-DFN14_L (DFN, 14-Leads, Body 5.1x4.1mm, Pitch 0.5mm, Thermal Pad 4.4x2.5mm, IPC High Density)
footprint ZMDI-DFN14_M (DFN, 14-Leads, Body 5.1x4.1mm, Pitch 0.5mm, Thermal Pad 4.4x2.5mm, IPC Low Density)
pins: 1 VDDA (power) "Positive analog supply voltage", 2 VSSA (power) "Negative analog supply voltage", 3 SDA (io) "I2C(TM) data IO", 4 SCL (in) "I2C(TM) clock", 5 NC "No connection", 6 VDD (power) "Positive digital supply voltage", 7 VDDE (power) "Positive external supply voltage", 8 VSSE (power) "Negative external supply voltage", 9 AOUT (io) "Analog output & one wire IF IO", 10 VBN (in) "Negative input sensor bridge", 11 VBR_B (power) "Bridge bottom potential", 12 VBP (in) "Positive input sensor bridge", 13 VBR_T (power) "Bridge top potential", 14 IRTEMP "Temp sensor & current source resistor", 15 EP

## ZSC31150GEG1R
designator U?
Fast Automotive Sensor Signal Conditioner, 4.5 to 5.5 V Supply Voltage, -40 to 150 degC, 14-Pin SSOP, Reel, RoHS; Manufacturer: ZMDI; PartNumber: ZSC31150GEG1R; ADC Resolution: 16; Adjustable Analog Gain Values: 2.8 to 420; DatasheetVersion: Rev. 2.00; PackageReference: SSOP14; PackageDescription: 14-Pin Shrink Small Outline Package, 6.2 x 5.29 mm Body, 0.65 mm Pitch; Supplier 1: Mouser; Supplier Part Number 1: 964-ZSC31150GEG1-R; Mounting Technology: Surface Mount; ComponentLink1Description: Manufacturer URL; ComponentLink1URL: http://www.zmdi.com/; ComponentLink2Description: Datasheet; ComponentLink2URL: http://zmdi.cdistore.com/datasheets/zmdi/ZSC31150_Data_Sheet_Rev_2_00_2012-10-15.pdf; ComponentLink3Description: Package Specification; ComponentLink3URL: http://zmdi.cdistore.com/datasheets/zmdi/ZSC31150_Data_Sheet_Rev_2_00_2012-10-15.pdf
footprint ZMDI-SSOP14_N (SOP, 14-Leads, Body 6.3x5.4mm, Pitch 0.65mm, IPC Medium Density)
footprint ZMDI-SSOP14_L (SOP, 14-Leads, Body 6.3x5.4mm, Pitch 0.65mm, IPC High Density)
footprint ZMDI-SSOP14_M (SOP, 14-Leads, Body 6.3x5.4mm, Pitch 0.65mm, IPC Low Density)
pins: 1 VDDA (power) "Positive analog supply voltage", 2 VSSA (power) "Negative analog supply voltage", 3 SDA (io) "I2C(TM) data IO", 4 SCL (in) "I2C(TM) clock", 5 NC "No connection", 6 VDD (power) "Positive digital supply voltage", 7 VDDE (power) "Positive external supply voltage", 8 VSSE (power) "Negative external supply voltage", 9 AOUT (io) "Analog output & one wire IF IO", 10 VBN (in) "Negative input sensor bridge", 11 VBR_B (power) "Bridge bottom potential", 12 VBP (in) "Positive input sensor bridge", 13 VBR_T (power) "Bridge top potential", 14 IRTEMP "Temp sensor & current source resistor"

## ZSC31150GEG1T
designator U?
Fast Automotive Sensor Signal Conditioner, 4.5 to 5.5 V Supply Voltage, -40 to 150 degC, 14-Pin SSOP, Tube, RoHS; Manufacturer: ZMDI; PartNumber: ZSC31150GEG1T; ADC Resolution: 16; Adjustable Analog Gain Values: 2.8 to 420; DatasheetVersion: Rev. 2.00; PackageReference: SSOP14; PackageDescription: 14-Pin Shrink Small Outline Package, 6.2 x 5.29 mm Body, 0.65 mm Pitch; Supplier 1: Mouser; Supplier Part Number 1: 964-ZSC31150GEG1-T; Mounting Technology: Surface Mount; ComponentLink1Description: Manufacturer URL; ComponentLink1URL: http://www.zmdi.com/; ComponentLink2Description: Datasheet; ComponentLink2URL: http://zmdi.cdistore.com/datasheets/zmdi/ZSC31150_Data_Sheet_Rev_2_00_2012-10-15.pdf; ComponentLink3Description: Package Specification; ComponentLink3URL: http://zmdi.cdistore.com/datasheets/zmdi/ZSC31150_Data_Sheet_Rev_2_00_2012-10-15.pdf
footprint ZMDI-SSOP14_N (SOP, 14-Leads, Body 6.3x5.4mm, Pitch 0.65mm, IPC Medium Density)
footprint ZMDI-SSOP14_L (SOP, 14-Leads, Body 6.3x5.4mm, Pitch 0.65mm, IPC High Density)
footprint ZMDI-SSOP14_M (SOP, 14-Leads, Body 6.3x5.4mm, Pitch 0.65mm, IPC Low Density)
pins: 1 VDDA (power) "Positive analog supply voltage", 2 VSSA (power) "Negative analog supply voltage", 3 SDA (io) "I2C(TM) data IO", 4 SCL (in) "I2C(TM) clock", 5 NC "No connection", 6 VDD (power) "Positive digital supply voltage", 7 VDDE (power) "Positive external supply voltage", 8 VSSE (power) "Negative external supply voltage", 9 AOUT (io) "Analog output & one wire IF IO", 10 VBN (in) "Negative input sensor bridge", 11 VBR_B (power) "Bridge bottom potential", 12 VBP (in) "Positive input sensor bridge", 13 VBR_T (power) "Bridge top potential", 14 IRTEMP "Temp sensor & current source resistor"

## ZSC31150GEG2-R
designator U?
Fast Automotive Sensor Signal Conditioner, 4.5 to 5.5 V Supply Voltage, -40 to 150 degC, 14-Pin DFN, Tape & Reel, RoHS; Manufacturer: ZMDI; PartNumber: ZSC31150GEG2-R; ADC Resolution: 16; Adjustable Analog Gain Values: 2.8 to 420; DatasheetVersion: Rev. 2.10; PackageReference: DFN14; PackageDescription: 14-Pin Dual Flatpack No Leads, 5 x 4 mm Body, 0.5 mm Pitch; Mounting Technology: Surface Mount; ComponentLink1Description: Manufacturer URL; ComponentLink1URL: http://www.zmdi.com/; ComponentLink2Description: Datasheet; ComponentLink2URL: http://www.zmdi.com/sites/default/files/ZSC31150_Data_Sheet_Rev_2_10_2014-03-31.pdf; ComponentLink3Description: Package Specification; ComponentLink3URL: http://www.zmdi.com/sites/default/files/ZSC31150_Data_Sheet_Rev_2_10_2014-03-31.pdf
footprint ZMDI-DFN14_N (DFN, 14-Leads, Body 5.1x4.1mm, Pitch 0.5mm, Thermal Pad 4.4x2.5mm, IPC Medium Density)
footprint ZMDI-DFN14_L (DFN, 14-Leads, Body 5.1x4.1mm, Pitch 0.5mm, Thermal Pad 4.4x2.5mm, IPC High Density)
footprint ZMDI-DFN14_M (DFN, 14-Leads, Body 5.1x4.1mm, Pitch 0.5mm, Thermal Pad 4.4x2.5mm, IPC Low Density)
pins: 1 VDDA (power) "Positive analog supply voltage", 2 VSSA (power) "Negative analog supply voltage", 3 SDA (io) "I2C(TM) data IO", 4 SCL (in) "I2C(TM) clock", 5 NC "No connection", 6 VDD (power) "Positive digital supply voltage", 7 VDDE (power) "Positive external supply voltage", 8 VSSE (power) "Negative external supply voltage", 9 AOUT (io) "Analog output & one wire IF IO", 10 VBN (in) "Negative input sensor bridge", 11 VBR_B (power) "Bridge bottom potential", 12 VBP (in) "Positive input sensor bridge", 13 VBR_T (power) "Bridge top potential", 14 IRTEMP "Temp sensor & current source resistor", 15 EP

## ZSC31150GLG1R
designator U?
Fast Automotive Sensor Signal Conditioner, 4.5 to 5.5 V Supply Voltage, -40 to 150 degC, 14-Pin SSOP, Reel, RoHS; Manufacturer: ZMDI; PartNumber: ZSC31150GLG1R; ADC Resolution: 16; Adjustable Analog Gain Values: 2.8 to 420; DatasheetVersion: Rev. 2.00; PackageReference: SSOP14; PackageDescription: 14-Pin Shrink Small Outline Package, 6.2 x 5.29 mm Body, 0.65 mm Pitch; Supplier 1: Mouser; Supplier Part Number 1: 964-ZSC31150GLG1-R; Mounting Technology: Surface Mount; ComponentLink1Description: Manufacturer URL; ComponentLink1URL: http://www.zmdi.com/; ComponentLink2Description: Datasheet; ComponentLink2URL: http://zmdi.cdistore.com/datasheets/zmdi/ZSC31150_Data_Sheet_Rev_2_00_2012-10-15.pdf; ComponentLink3Description: Package Specification; ComponentLink3URL: http://zmdi.cdistore.com/datasheets/zmdi/ZSC31150_Data_Sheet_Rev_2_00_2012-10-15.pdf
footprint ZMDI-SSOP14_N (SOP, 14-Leads, Body 6.3x5.4mm, Pitch 0.65mm, IPC Medium Density)
footprint ZMDI-SSOP14_L (SOP, 14-Leads, Body 6.3x5.4mm, Pitch 0.65mm, IPC High Density)
footprint ZMDI-SSOP14_M (SOP, 14-Leads, Body 6.3x5.4mm, Pitch 0.65mm, IPC Low Density)
pins: 1 VDDA (power) "Positive analog supply voltage", 2 VSSA (power) "Negative analog supply voltage", 3 SDA (io) "I2C(TM) data IO", 4 SCL (in) "I2C(TM) clock", 5 NC "No connection", 6 VDD (power) "Positive digital supply voltage", 7 VDDE (power) "Positive external supply voltage", 8 VSSE (power) "Negative external supply voltage", 9 AOUT (io) "Analog output & one wire IF IO", 10 VBN (in) "Negative input sensor bridge", 11 VBR_B (power) "Bridge bottom potential", 12 VBP (in) "Positive input sensor bridge", 13 VBR_T (power) "Bridge top potential", 14 IRTEMP "Temp sensor & current source resistor"

## ZSC31150GLG1T
designator U?
Fast Automotive Sensor Signal Conditioner, 4.5 to 5.5 V Supply Voltage, -40 to 150 degC, 14-Pin SSOP, Tube, RoHS; Manufacturer: ZMDI; PartNumber: ZSC31150GLG1T; ADC Resolution: 16; Adjustable Analog Gain Values: 2.8 to 420; DatasheetVersion: Rev. 2.00; PackageReference: SSOP14; PackageDescription: 14-Pin Shrink Small Outline Package, 6.2 x 5.29 mm Body, 0.65 mm Pitch; Supplier 1: Mouser; Supplier Part Number 1: 964-ZSC31150GLG1-T; Mounting Technology: Surface Mount; ComponentLink1Description: Manufacturer URL; ComponentLink1URL: http://www.zmdi.com/; ComponentLink2Description: Datasheet; ComponentLink2URL: http://zmdi.cdistore.com/datasheets/zmdi/ZSC31150_Data_Sheet_Rev_2_00_2012-10-15.pdf; ComponentLink3Description: Package Specification; ComponentLink3URL: http://zmdi.cdistore.com/datasheets/zmdi/ZSC31150_Data_Sheet_Rev_2_00_2012-10-15.pdf
footprint ZMDI-SSOP14_N (SOP, 14-Leads, Body 6.3x5.4mm, Pitch 0.65mm, IPC Medium Density)
footprint ZMDI-SSOP14_L (SOP, 14-Leads, Body 6.3x5.4mm, Pitch 0.65mm, IPC High Density)
footprint ZMDI-SSOP14_M (SOP, 14-Leads, Body 6.3x5.4mm, Pitch 0.65mm, IPC Low Density)
pins: 1 VDDA (power) "Positive analog supply voltage", 2 VSSA (power) "Negative analog supply voltage", 3 SDA (io) "I2C(TM) data IO", 4 SCL (in) "I2C(TM) clock", 5 NC "No connection", 6 VDD (power) "Positive digital supply voltage", 7 VDDE (power) "Positive external supply voltage", 8 VSSE (power) "Negative external supply voltage", 9 AOUT (io) "Analog output & one wire IF IO", 10 VBN (in) "Negative input sensor bridge", 11 VBR_B (power) "Bridge bottom potential", 12 VBP (in) "Positive input sensor bridge", 13 VBR_T (power) "Bridge top potential", 14 IRTEMP "Temp sensor & current source resistor"